# Altium schematic symbol library KN2CLib.SchLib: 64 symbols
Pins are listed as number, name and electrical type; pins without a type are passive.

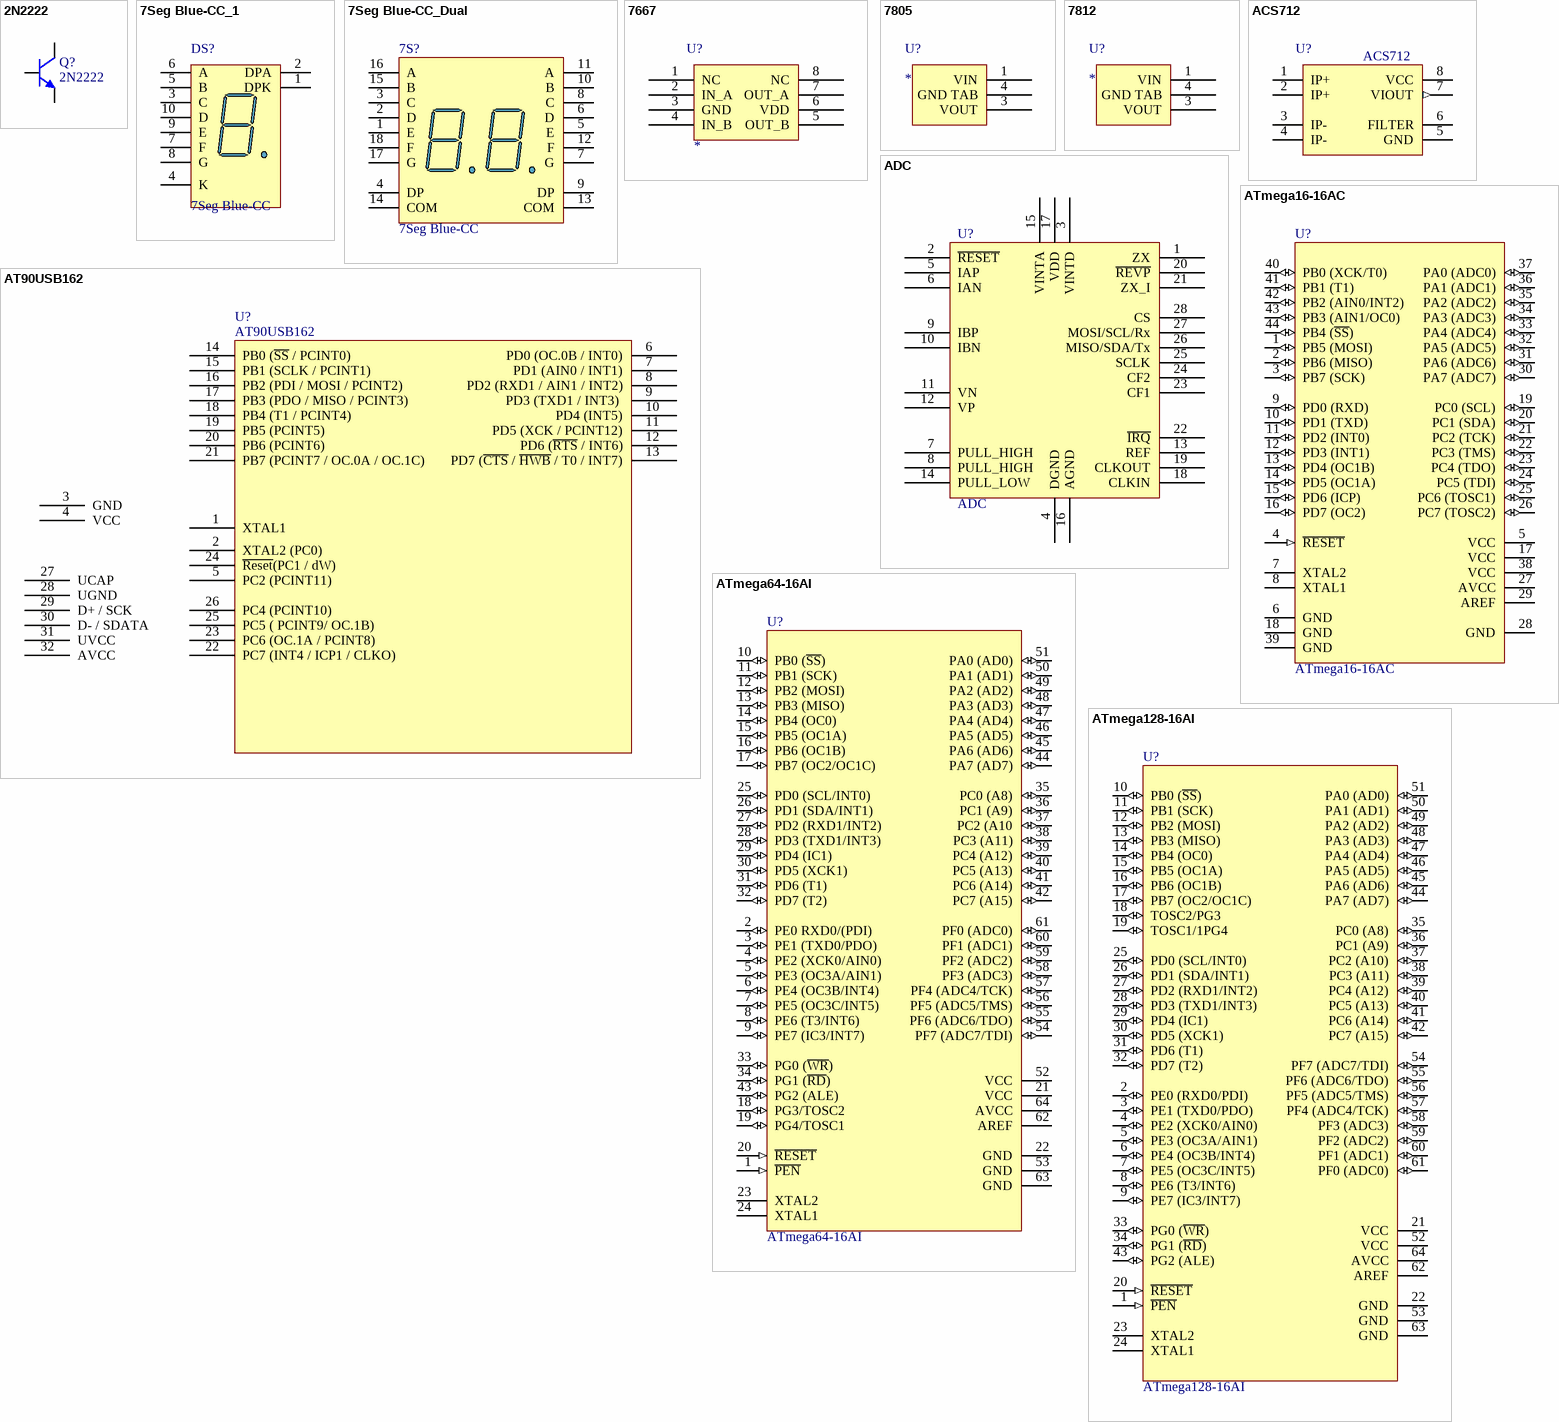
[diagram p0: symbols 2N2222 to ATmega128-16AI]

## 2N2222
designator Q?
NPN Bipolar Transistor; Published: 8-Jun-2000; LatestRevisionDate: 17-Jul-2002; LatestRevisionNote: Re-released for DXP Platform.; PackageReference: TO-226; Publisher: Altium Limited; Code_JEDEC: TO-226-AA
footprint TO-226 (TO, Flat Index; 3 In-Line, Axial Leads; Body Dia. 4.8mm; Leads 0.55 x 0.51 mm (max))
footprint SOT-23 (SOT-23; 3 Leads; Body 3.0 x 2.6 mm, inc. leads (LxW max))
pins: 1 C, 2 B, 3 E

## 7Seg Blue-CC_1
designator DS?, comment 7Seg Blue-CC
14.2 mm General Purpose Blue 7-Segment Display: CC, RH DP, Gray Surface; MinimumIntensity: 2020 ucd; Note: IF = 10 mA; Published: 8-Jun-2000; LatestRevisionDate: 17-Dec-2003; LatestRevisionNote: Schematic revised, PCB Footprint replaced.; DatasheetDocument: 24-Sep-2002; PackageDocument: 24-Sep-2002; PackageReference: H; Publisher: Altium Limited; Colour: Blue; ComponentLink1Description: Manufacturer Link; ComponentLink1URL: http://www.agilent.com/
footprint 7Segment Small
pins: 1 DPK "Anode", 2 DPA "Anode", 3 C "Common Cathode", 4 K "Anode", 5 B "Anode", 6 A "Anode", 7 F "Anode", 8 G "Common Cathode", 9 E "Anode", 10 D "Anode"

## 7Seg Blue-CC_Dual
designator 7S?, comment 7Seg Blue-CC
General Purpose Blue 7-Segment Display: CC, RH DP, Gray Surface; MinimumIntensity: 2020 ucd; Note: IF = 10 mA; Published: 8-Jun-2000; LatestRevisionDate: 17-Dec-2003; LatestRevisionNote: Schematic revised, PCB Footprint replaced.; DatasheetDocument: 24-Sep-2002; PackageDocument: 24-Sep-2002; PackageReference: H; Publisher: Altium Limited; Colour: Blue; ComponentLink1Description: Manufacturer Link; ComponentLink1URL: http://www.agilent.com/
footprint 7Segment Dual
pins: 1 E "Anode", 2 D "Anode", 3 C "Common Cathode", 4 DP "Anode", 5 E "Anode", 6 D "Anode", 7 G "Anode", 8 C "Common Cathode", 9 DP "Anode", 10 B "Anode", 11 A, 12 F, 13 COM, 14 COM, 15 B, 16 A, 17 G, 18 F

## 7667
designator U?
Dual MOSFET Driver
footprint DIP-8 (DIP; 8 Leads; Row Spacing 7.62 mm; Pitch 2.54 mm)
footprint 8 pin SOIC_N (8-Pin Small Outline Integrated Circuit 1.27 mm Pitch, IPC Medium Density)
footprint 8 pin SOIC_M (8-Pin Small Outline Integrated Circuit 1.27 mm Pitch, IPC Low Density)
footprint 8 pin SOIC_L (8-Pin Small Outline Integrated Circuit 1.27 mm Pitch, IPC High Density)
pins: 1 NC, 2 IN_A, 3 GND, 4 IN_B, 5 OUT_B, 6 VDD, 7 OUT_A, 8 NC

## 7805
designator U?
footprint D-PACK (Footprint not found)
pins: 1 VIN, 3 VOUT, 4 GND TAB

## 7812
designator U?
footprint D-PACK (Footprint not found)
pins: 1 VIN, 3 VOUT, 4 GND TAB

## ACS712
designator U?
footprint 8 pin SOIC_N (8-Pin Small Outline Integrated Circuit 1.27 mm Pitch, IPC Medium Density)
pins: 1 IP+, 2 IP+, 3 IP-, 4 IP-, 5 GND (power), 6 FILTER, 7 VIOUT (out), 8 VCC (power)

## ADC
designator U?
footprint QFN_28 (QFN, 28-Leads, Body 5.1x5.1mm (max), Pitch 0.50mm, IPC Medium Density)
pins: 1 ZX, 2 ~{RESET}, 3 VINTD, 4 DGND, 5 IAP, 6 IAN, 7 PULL_HIGH, 8 PULL_HIGH, 9 IBP, 10 IBN, 11 VN, 12 VP, 13 REF, 14 PULL_LOW, 15 VINTA, 16 AGND, 17 VDD, 18 CLKIN, 19 CLKOUT, 20 ~{REVP}, 21 ZX_I, 22 ~{IRQ}, 23 CF1, 24 CF2, 25 SCLK, 26 MISO/SDA/Tx, 27 MOSI/SCL/Rx, 28 CS

## AT90USB162
designator U?
pins: 1 XTAL1, 2 XTAL2 (PC0), 3 GND, 4 VCC, 5 PC2 (PCINT11) , 6 PD0 (OC.0B / INT0), 7 PD1 (AIN0 / INT1), 8 PD2 (RXD1 / AIN1 / INT2), 9 PD3 (TXD1 / INT3) , 10 PD4 (INT5), 11 PD5 (XCK / PCINT12), 12 PD6 (~{RTS} / INT6), 13 PD7 (~{CTS} / ~{HWB} / T0 / INT7), 14 PB0 (~{SS} / PCINT0), 15 PB1 (SCLK / PCINT1), 16 PB2 (PDI / MOSI / PCINT2), 17 PB3 (PDO / MISO / PCINT3), 18 PB4 (T1 / PCINT4), 19 PB5 (PCINT5), 20 PB6 (PCINT6), 21 PB7 (PCINT7 / OC.0A / OC.1C), 22 PC7 (INT4 / ICP1 / CLKO), 23 PC6 (OC.1A / PCINT8), 24 ~{Reset}(PC1 / dW), 25 PC5 ( PCINT9/ OC.1B), 26 PC4 (PCINT10), 27 UCAP, 28 UGND, 29 D+ / SCK, 30 D- / SDATA, 31 UVCC, 32 AVCC

## ATmega16-16AC
designator U?
8-Bit AVR Microcontroller with 16K Bytes of In-System Programmable Flash Memory; Published: 17-Sep-2003; LatestRevisionDate: 13-Apr-2006; LatestRevisionNote: IPC-7351 Footprint Added.; DatasheetVersion: 2466E-AVR-10/02; PackageVersion: rev.B, Oct-2001; PackageReference: 44A; Publisher: Altium Limited; PackageDescription: 44-Pin Thin Quad Flat Pack 0.8 mm Pitch; ComponentLink1Description: Manufacturer Link; ComponentLink1URL: http://www.atmel.com; ComponentLink2Description: Datasheet; ComponentLink2URL: http://www.atmel.com/dyn/resources/prod_documents/doc2466.pdf
footprint 44A_L (Thin QFP, 44-Leads, Body 10x10mm, Pitch 0.8mm, IPC High Density)
footprint 44A_M (Thin QFP, 44-Leads, Body 10x10mm, Pitch 0.8mm, IPC Low Density)
footprint 44A_DIP
footprint 44A_N (Thin QFP, 44-Leads, Body 10x10mm, Pitch 0.8mm, IPC Medium Density)
pins: 1 PB5 (MOSI) (io), 2 PB6 (MISO) (io), 3 PB7 (SCK) (io), 4 ~{RESET} (in), 5 VCC (power), 6 GND (power), 7 XTAL2, 8 XTAL1, 9 PD0 (RXD) (io), 10 PD1 (TXD) (io), 11 PD2 (INT0) (io), 12 PD3 (INT1) (io), 13 PD4 (OC1B) (io), 14 PD5 (OC1A) (io), 15 PD6 (ICP) (io), 16 PD7 (OC2) (io), 17 VCC (power), 18 GND (power), 19 PC0 (SCL) (io), 20 PC1 (SDA) (io), 21 PC2 (TCK) (io), 22 PC3 (TMS) (io), 23 PC4 (TDO) (io), 24 PC5 (TDI) (io), 25 PC6 (TOSC1) (io), 26 PC7 (TOSC2) (io), 27 AVCC (power), 28 GND (power), 29 AREF, 30 PA7 (ADC7) (io), 31 PA6 (ADC6) (io), 32 PA5 (ADC5) (io), 33 PA4 (ADC4) (io), 34 PA3 (ADC3) (io), 35 PA2 (ADC2) (io), 36 PA1 (ADC1) (io), 37 PA0 (ADC0) (io), 38 VCC (power), 39 GND (power), 40 PB0 (XCK/T0) (io), 41 PB1 (T1) (io), 42 PB2 (AIN0/INT2) (io), 43 PB3 (AIN1/OC0) (io), 44 PB4 (~{SS}) (io)

## ATmega64-16AI
designator U?
8-Bit AVR Microcontroller with 64K Bytes of In-System Programmable Flash Memory; Published: 17-Sep-2003; LatestRevisionDate: 13-Apr-2006; LatestRevisionNote: IPC-7351 Footprint Added.; DatasheetVersion: 2490C-AVR-009/02; PackageVersion: revB, Oct-2001; PackageReference: 64A; Publisher: Altium Limited; PackageDescription: 64-Pin Thin Quad Flat Pack 0.8 mm Pitch; Code_JEDEC: MS-026-AEB; ComponentLink1Description: Manufacturer Link; ComponentLink1URL: http://www.atmel.com; ComponentLink2Description: Datasheet; ComponentLink2URL: http://www.atmel.com/dyn/resources/prod_documents/doc2490.pdf
footprint 64A_N (Thin QFP, 64-Leads, Body 14x14mm, Pitch 0.8mm, IPC Medium Density)
footprint 64A_L (Thin QFP, 64-Leads, Body 14x14mm, Pitch 0.8mm, IPC High Density)
footprint 64A_M (Thin QFP, 64-Leads, Body 14x14mm, Pitch 0.8mm, IPC Low Density)
pins: 1 ~{PEN} (in), 2 PE0 RXD0/(PDI) (io), 3 PE1 (TXD0/PDO) (io), 4 PE2 (XCK0/AIN0) (io), 5 PE3 (OC3A/AIN1) (io), 6 PE4 (OC3B/INT4) (io), 7 PE5 (OC3C/INT5) (io), 8 PE6 (T3/INT6) (io), 9 PE7 (IC3/INT7) (io), 10 PB0 (~{SS}) (io), 11 PB1 (SCK) (io), 12 PB2 (MOSI) (io), 13 PB3 (MISO) (io), 14 PB4 (OC0) (io), 15 PB5 (OC1A) (io), 16 PB6 (OC1B) (io), 17 PB7 (OC2/OC1C) (io), 18 PG3/TOSC2 (io), 19 PG4/TOSC1 (io), 20 ~{RESET} (in), 21 VCC (power), 22 GND (power), 23 XTAL2, 24 XTAL1, 25 PD0 (SCL/INT0) (io), 26 PD1 (SDA/INT1) (io), 27 PD2 (RXD1/INT2) (io), 28 PD3 (TXD1/INT3) (io), 29 PD4 (IC1) (io), 30 PD5 (XCK1) (io), 31 PD6 (T1) (io), 32 PD7 (T2) (io), 33 PG0 (~{WR}) (io), 34 PG1 (~{RD}) (io), 35 PC0 (A8) (io), 36 PC1 (A9) (io), 37 PC2 (A10 (io), 38 PC3 (A11) (io), 39 PC4 (A12) (io), 40 PC5 (A13) (io), 41 PC6 (A14) (io), 42 PC7 (A15) (io), 43 PG2 (ALE) (io), 44 PA7 (AD7) (io), 45 PA6 (AD6) (io), 46 PA5 (AD5) (io), 47 PA4 (AD4) (io), 48 PA3 (AD3) (io), 49 PA2 (AD2) (io), 50 PA1 (AD1) (io), 51 PA0 (AD0) (io), 52 VCC (power), 53 GND (power), 54 PF7 (ADC7/TDI) (io), 55 PF6 (ADC6/TDO) (io), 56 PF5 (ADC5/TMS) (io), 57 PF4 (ADC4/TCK) (io), 58 PF3 (ADC3) (io), 59 PF2 (ADC2) (io), 60 PF1 (ADC1) (io), 61 PF0 (ADC0) (io), 62 AREF, 63 GND (power), 64 AVCC (power)

## ATmega128-16AI
designator U?
8-Bit AVR Microcontroller with 128K Bytes of In-System Programmable Flash Memory; Published: 17-Sep-2003; LatestRevisionDate: 13-Apr-2006; LatestRevisionNote: IPC-7351 Footprint Added.; DatasheetVersion: 2467G-AVR-09/02; PackageVersion: revB, Oct-2001; PackageReference: 64A; Publisher: Altium Limited; PackageDescription: 64-Pin Thin Quad Flat Pack 0.8 mm Pitch; Code_JEDEC: MS-026-AEB; ComponentLink1Description: Manufacturer Link; ComponentLink1URL: http://www.atmel.com; ComponentLink2Description: Datasheet; ComponentLink2URL: http://www.atmel.com/dyn/resources/prod_documents/doc2467.pdf
footprint 64A_N (Thin QFP, 64-Leads, Body 14x14mm, Pitch 0.8mm, IPC Medium Density)
footprint 64A_L (Thin QFP, 64-Leads, Body 14x14mm, Pitch 0.8mm, IPC High Density)
footprint 64A_M (Thin QFP, 64-Leads, Body 14x14mm, Pitch 0.8mm, IPC Low Density)
pins: 1 ~{PEN} (in), 2 PE0 (RXD0/PDI) (io), 3 PE1 (TXD0/PDO) (io), 4 PE2 (XCK0/AIN0) (io), 5 PE3 (OC3A/AIN1) (io), 6 PE4 (OC3B/INT4) (io), 7 PE5 (OC3C/INT5) (io), 8 PE6 (T3/INT6) (io), 9 PE7 (IC3/INT7) (io), 10 PB0 (~{SS}) (io), 11 PB1 (SCK) (io), 12 PB2 (MOSI) (io), 13 PB3 (MISO) (io), 14 PB4 (OC0) (io), 15 PB5 (OC1A) (io), 16 PB6 (OC1B) (io), 17 PB7 (OC2/OC1C) (io), 18 TOSC2/PG3 (io), 19 TOSC1/1PG4 (io), 20 ~{RESET} (in), 21 VCC (power), 22 GND (power), 23 XTAL2, 24 XTAL1, 25 PD0 (SCL/INT0) (io), 26 PD1 (SDA/INT1) (io), 27 PD2 (RXD1/INT2) (io), 28 PD3 (TXD1/INT3) (io), 29 PD4 (IC1) (io), 30 PD5 (XCK1) (io), 31 PD6 (T1) (io), 32 PD7 (T2) (io), 33 PG0 (~{WR}) (io), 34 PG1 (~{RD}) (io), 35 PC0 (A8) (io), 36 PC1 (A9) (io), 37 PC2 (A10) (io), 38 PC3 (A11) (io), 39 PC4 (A12) (io), 40 PC5 (A13) (io), 41 PC6 (A14) (io), 42 PC7 (A15) (io), 43 PG2 (ALE) (io), 44 PA7 (AD7) (io), 45 PA6 (AD6) (io), 46 PA5 (AD5) (io), 47 PA4 (AD4) (io), 48 PA3 (AD3) (io), 49 PA2 (AD2) (io), 50 PA1 (AD1) (io), 51 PA0 (AD0) (io), 52 VCC (power), 53 GND (power), 54 PF7 (ADC7/TDI) (io), 55 PF6 (ADC6/TDO) (io), 56 PF5 (ADC5/TMS) (io), 57 PF4 (ADC4/TCK) (io), 58 PF3 (ADC3) (io), 59 PF2 (ADC2) (io), 60 PF1 (ADC1) (io), 61 PF0 (ADC0) (io), 62 AREF, 63 GND (power), 64 AVCC (power)

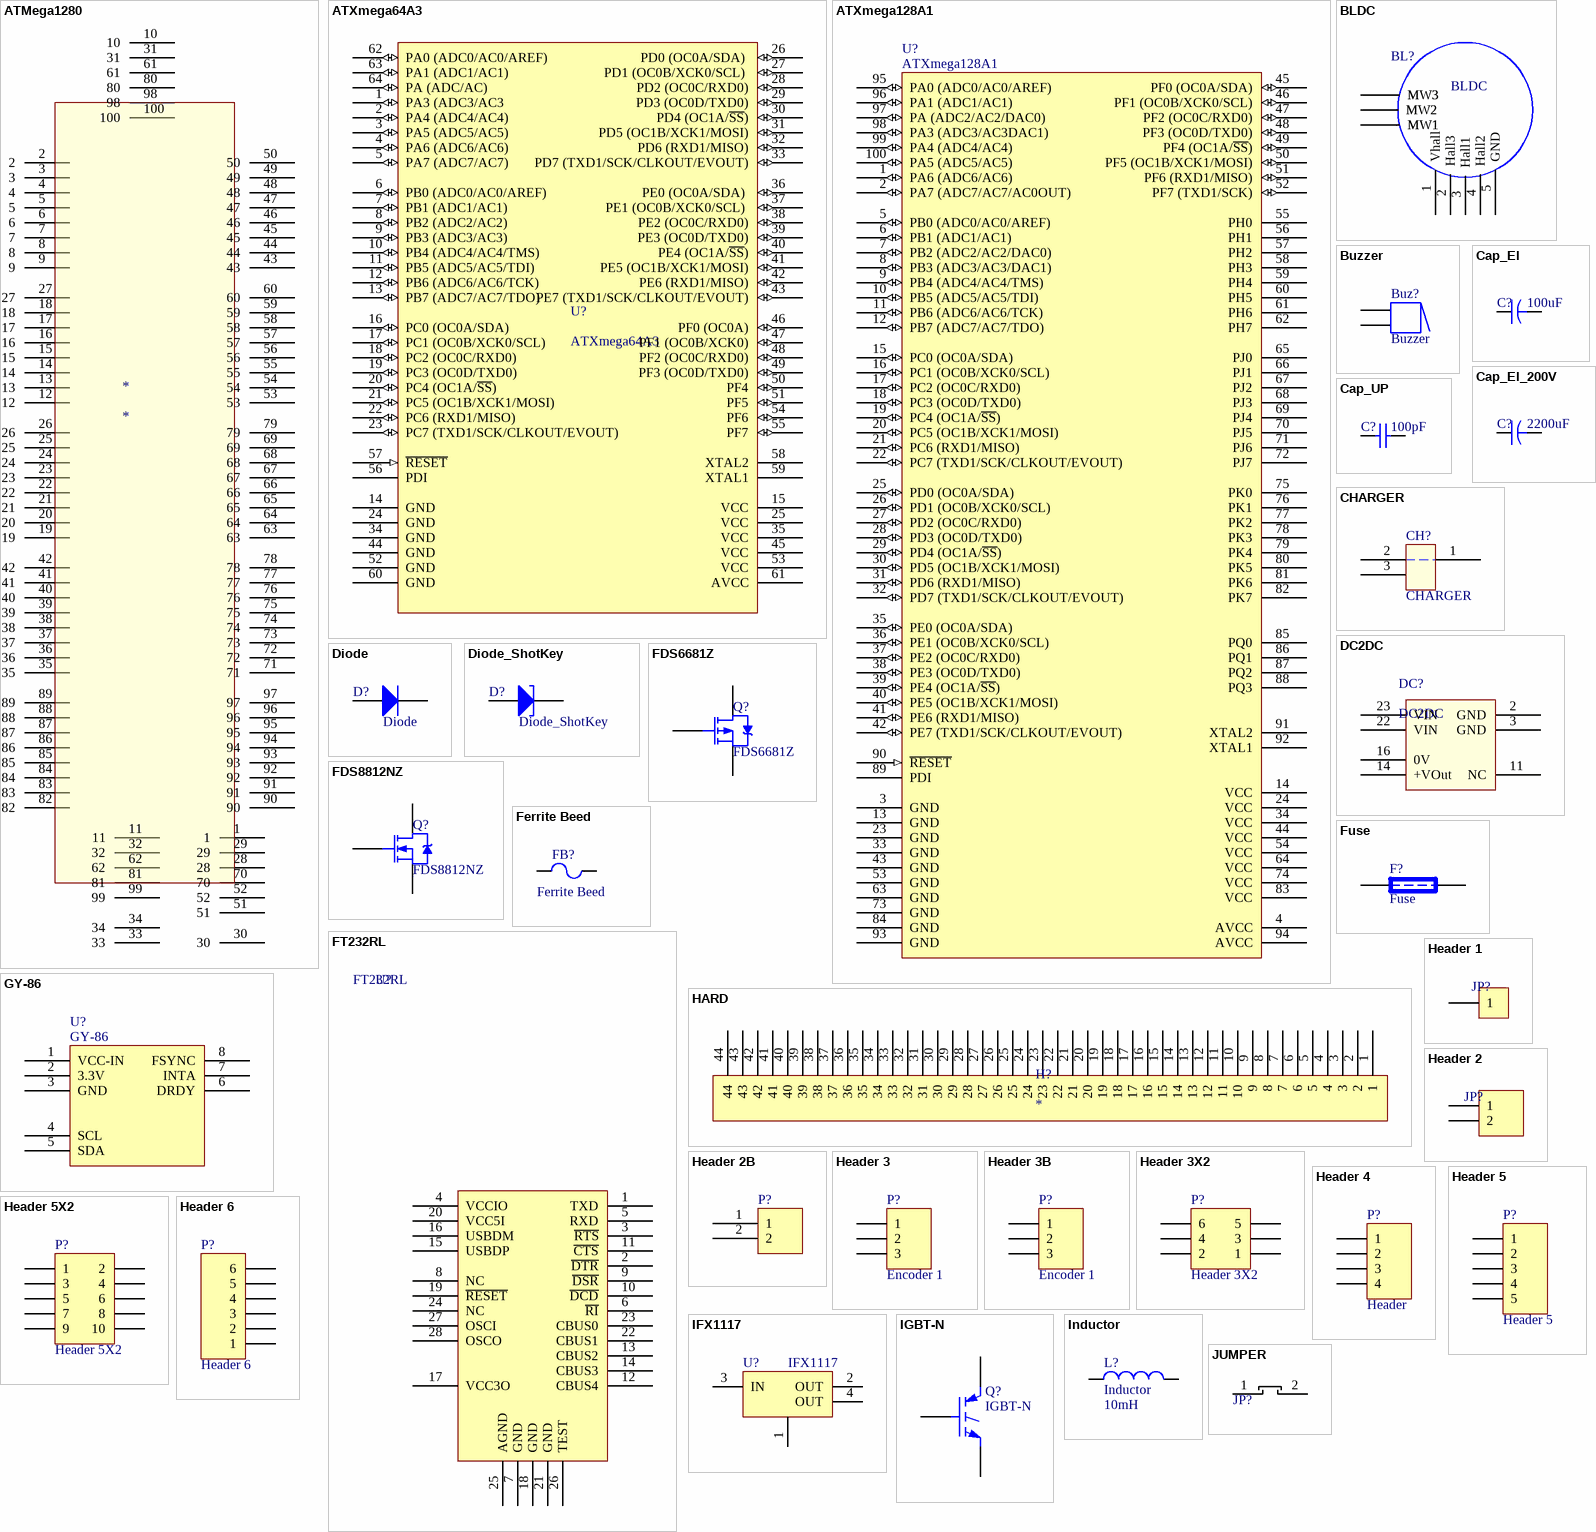
[diagram p1: symbols ATMega1280 to JUMPER]

## ATMega1280
designator *
pins: 1, 2, 3, 4, 5, 6, 7, 8, 9, 10, 11, 12, 13, 14, 15, 16, 17, 18, 19, 20, 21, 22, 23, 24, 25, 26, 27, 28, 29, 30, 31, 32, 33, 34, 35, 36, 37, 38, 39, 40, 41, 42, 43, 44, 45, 46, 47, 48, 49, 50, 51, 52, 53, 54, 55, 56, 57, 58, 59, 60, 61, 62, 63, 64, 65, 66, 67, 68, 69, 70, 71, 72, 73, 74, 75, 76, 77, 78, 79, 80, 81, 82, 83, 84, 85, 86, 87, 88, 89, 90, 91, 92, 93, 94, 95, 96, 97, 98, 99, 100

## ATXmega64A3
designator U?
footprint 64A_M (Thin QFP, 64-Leads, Body 14x14mm, Pitch 0.8mm, IPC Low Density)
footprint 64A_L (Thin QFP, 64-Leads, Body 14x14mm, Pitch 0.8mm, IPC High Density)
footprint 64A_DIP (DIP, 64-Leads, Body 14x14mm,)
footprint 64A_N (Thin QFP, 64-Leads, Body 14x14mm, Pitch 0.8mm, IPC Medium Density)
footprint 64A_COMPONENT
footprint 64A_MDIP
pins: 1 PA3 (ADC3/AC3 (io), 2 PA4 (ADC4/AC4) (io), 3 PA5 (ADC5/AC5) (io), 4 PA6 (ADC6/AC6) (io), 5 PA7 (ADC7/AC7) (io), 6 PB0 (ADC0/AC0/AREF) (io), 7 PB1 (ADC1/AC1) (io), 8 PB2 (ADC2/AC2) (io), 9 PB3 (ADC3/AC3) (io), 10 PB4 (ADC4/AC4/TMS) (io), 11 PB5 (ADC5/AC5/TDI) (io), 12 PB6 (ADC6/AC6/TCK) (io), 13 PB7 (ADC7/AC7/TDO) (io), 14 GND (power), 15 VCC (power), 16 PC0 (OC0A/SDA)  (io), 17 PC1 (OC0B/XCK0/SCL)  (io), 18 PC2 (OC0C/RXD0) (io), 19 PC3 (OC0D/TXD0) (io), 20 PC4 (OC1A/~{SS}) (io), 21 PC5 (OC1B/XCK1/MOSI) (io), 22 PC6 (RXD1/MISO) (io), 23 PC7 (TXD1/SCK/CLKOUT/EVOUT) (io), 24 GND (power), 25 VCC (power), 26 PD0 (OC0A/SDA)  (io), 27 PD1 (OC0B/XCK0/SCL)  (io), 28 PD2 (OC0C/RXD0) (io), 29 PD3 (OC0D/TXD0) (io), 30 PD4 (OC1A/~{SS}) (io), 31 PD5 (OC1B/XCK1/MOSI) (io), 32 PD6 (RXD1/MISO) (io), 33 PD7 (TXD1/SCK/CLKOUT/EVOUT) (io), 34 GND (power), 35 VCC (power), 36 PE0 (OC0A/SDA)  (io), 37 PE1 (OC0B/XCK0/SCL)  (io), 38 PE2 (OC0C/RXD0) (io), 39 PE3 (OC0D/TXD0) (io), 40 PE4 (OC1A/~{SS}) (io), 41 PE5 (OC1B/XCK1/MOSI) (io), 42 PE6 (RXD1/MISO) (io), 43 PE7 (TXD1/SCK/CLKOUT/EVOUT) (io), 44 GND (power), 45 VCC (power), 46 PF0 (OC0A) (io), 47 PF1 (OC0B/XCK0) (io), 48 PF2 (OC0C/RXD0) (io), 49 PF3 (OC0D/TXD0) (io), 50 PF4 (io), 51 PF5 (io), 52 GND (power), 53 VCC (power), 54 PF6 (io), 55 PF7 (io), 56 PDI, 57 ~{RESET} (in), 58 XTAL2, 59 XTAL1, 60 GND (power), 61 AVCC (power), 62 PA0 (ADC0/AC0/AREF) (io), 63 PA1 (ADC1/AC1) (io), 64 PA (ADC/AC) (io)

## ATXmega128A1
designator U?
footprint 100A_N (Thin QFP, 100-Leads, Body 14x14mm, Pitch 0.5mm, IPC Medium Density)
footprint 100A_M (Thin QFP, 100-Leads, Body 14x14mm, Pitch 0.5mm, IPC Low Density)
footprint 100A_L (Thin QFP, 100-Leads, Body 14x14mm, Pitch 0.5mm, IPC High Density)
pins: 1 PA6 (ADC6/AC6) (io), 2 PA7 (ADC7/AC7/AC0OUT) (io), 3 GND (power), 4 AVCC (power), 5 PB0 (ADC0/AC0/AREF) (io), 6 PB1 (ADC1/AC1) (io), 7 PB2 (ADC2/AC2/DAC0) (io), 8 PB3 (ADC3/AC3/DAC1) (io), 9 PB4 (ADC4/AC4/TMS) (io), 10 PB5 (ADC5/AC5/TDI) (io), 11 PB6 (ADC6/AC6/TCK) (io), 12 PB7 (ADC7/AC7/TDO) (io), 13 GND (power), 14 VCC (power), 15 PC0 (OC0A/SDA)  (io), 16 PC1 (OC0B/XCK0/SCL)  (io), 17 PC2 (OC0C/RXD0) (io), 18 PC3 (OC0D/TXD0) (io), 19 PC4 (OC1A/~{SS}) (io), 20 PC5 (OC1B/XCK1/MOSI) (io), 21 PC6 (RXD1/MISO) (io), 22 PC7 (TXD1/SCK/CLKOUT/EVOUT) (io), 23 GND (power), 24 VCC (power), 25 PD0 (OC0A/SDA)  (io), 26 PD1 (OC0B/XCK0/SCL)  (io), 27 PD2 (OC0C/RXD0) (io), 28 PD3 (OC0D/TXD0) (io), 29 PD4 (OC1A/~{SS}) (io), 30 PD5 (OC1B/XCK1/MOSI) (io), 31 PD6 (RXD1/MISO) (io), 32 PD7 (TXD1/SCK/CLKOUT/EVOUT) (io), 33 GND (power), 34 VCC (power), 35 PE0 (OC0A/SDA)  (io), 36 PE1 (OC0B/XCK0/SCL)  (io), 37 PE2 (OC0C/RXD0) (io), 38 PE3 (OC0D/TXD0) (io), 39 PE4 (OC1A/~{SS}) (io), 40 PE5 (OC1B/XCK1/MOSI) (io), 41 PE6 (RXD1/MISO) (io), 42 PE7 (TXD1/SCK/CLKOUT/EVOUT) (io), 43 GND (power), 44 VCC (power), 45 PF0 (OC0A/SDA) (io), 46 PF1 (OC0B/XCK0/SCL) (io), 47 PF2 (OC0C/RXD0) (io), 48 PF3 (OC0D/TXD0) (io), 49 PF4 (OC1A/~{SS}) (io), 50 PF5 (OC1B/XCK1/MOSI) (io), 51 PF6 (RXD1/MISO) (io), 52 PF7 (TXD1/SCK) (io), 53 GND (power), 54 VCC, 55 PH0, 56 PH1, 57 PH2, 58 PH3, 59 PH4, 60 PH5, 61 PH6, 62 PH7, 63 GND, 64 VCC, 65 PJ0, 66 PJ1, 67 PJ2, 68 PJ3, 69 PJ4, 70 PJ5, 71 PJ6, 72 PJ7, 73 GND, 74 VCC, 75 PK0, 76 PK1, 77 PK2, 78 PK3, 79 PK4, 80 PK5, 81 PK6, 82 PK7, 83 VCC, 84 GND, 85 PQ0, 86 PQ1, 87 PQ2, 88 PQ3, 89 PDI, 90 ~{RESET} (in), 91 XTAL2, 92 XTAL1, 93 GND, 94 AVCC (power), 95 PA0 (ADC0/AC0/AREF) (io), 96 PA1 (ADC1/AC1) (io), 97 PA (ADC2/AC2/DAC0) (io), 98 PA3 (ADC3/AC3DAC1) (io), 99 PA4 (ADC4/AC4) (io), 100 PA5 (ADC5/AC5) (io)

## BLDC
designator BL?
footprint FLT11
pins: 1 Vhall, 2 Hall3, 3 Hall1, 4 Hall2, 5 GND, 6 MW3, 7 MW3, 8 MW2, 9 MW2, 10 MW1, 11 MW1

## Buzzer
designator Buz?
footprint Buzzer
pins: 1, 2

## Cap_El
designator C?  value 100uF  (hidden comment: Cap_El)
Capacitor; Published: 23-Sep-2002; PackageReference: CAPR5-4X5; Publisher: Altium Limited
footprint EL_M
footprint EL_L (Footprint not found)
footprint EL_B
footprint 7343 (Capacitor, SM Tantalum; Body 7.3 x 4.3 mm (LxW typ))
footprint EL_M
footprint SIZE_A (Molded Capacitor, 2-Leads, Body 3.4x1.9mm, IPC Medium Density)
footprint SIZE_B (Molded Capacitor, 2-Leads, Body 3.9x3.0mm, IPC Medium Density)
pins: 1, 2

## Cap_El_200V
designator C?  value 2200uF  (hidden comment: Cap_El_200V)
Capacitor; Published: 23-Sep-2002; PackageReference: CAPR5-4X5; Publisher: Altium Limited
footprint CAP (Footprint not found)
pins: 1, 2

## Cap_UP
designator C?  value 100pF  (hidden comment: Cap_UP)
Capacitor; Published: 8-Jun-2000; LatestRevisionDate: 17-Jul-2002; LatestRevisionNote: Re-released for DXP Platform.; PackageReference: RAD-0.3; Publisher: Altium Limited
footprint UP (Footprint not found)
footprint UP_ML (Capacitor, Ceramic, Thru-Hole, Dipped Radial; Body 7.8 x 3.2 mm (WxT) Pin Spacing 5.08 mm (typ))
footprint 2012[0805] (Chip Resistor; Body 2.0 x 1.3 mm (LxW typ))
footprint 1608[0603] (Chip Capacitor; Body 1.6 x 0.8 mm (LxW typ))
pins: 1, 2

## CHARGER
designator CH?
footprint CHARGER
pins: 1, 2, 3

## DC2DC
designator DC?
footprint PWB2403MD-6W
pins: 2 GND, 3 GND, 11 NC, 14 +VOut, 16 0V, 22 VIN, 23 VIN

## Diode
designator D?
1 Amp General Purpose Rectifier; Revision 1: 11-Jul-2000: SIM Model Added.; Revision 2: 17-Jul-2002: Re-released for DXP Platform.; Package Information: Latest Revision: Aug-1999; Code - JEDEC: DO-204-AL; Published: 8-Jun-2000; Datasheet: Latest Revision: 1998; Package Reference: DO-41; Publisher: Altium Limited
footprint US1M (Molded Diode, 2-Leads, Body 4.3x2.6mm, IPC Medium Density)
footprint 2012[0805] (Chip Resistor; Body 2.0 x 1.3 mm (LxW typ))
footprint DIO10.46-5.3X2.8
footprint LED_3MM
footprint SS3M
pins: 1 A, 2 K

## Diode_ShotKey
designator D?
1 Amp General Purpose Rectifier; Revision 1: 11-Jul-2000: SIM Model Added.; Revision 2: 17-Jul-2002: Re-released for DXP Platform.; Package Information: Latest Revision: Aug-1999; Code - JEDEC: DO-204-AL; Published: 8-Jun-2000; Datasheet: Latest Revision: 1998; Package Reference: DO-41; Publisher: Altium Limited
footprint TO-220A
pins: 1 K, 2 A

## FDS6681Z
designator Q?
P-Channel MOSFET
footprint SO-8_L (8-Pin Small Outline Integrated Circuit 1.27 mm Pitch, IPC High Density)
footprint SO-8_M (8-Pin Small Outline Integrated Circuit 1.27 mm Pitch, IPC Low Density)
footprint SO-8_N (8-Pin Small Outline Integrated Circuit 1.27 mm Pitch, IPC Medium Density)
pins: 1 D, 2 G, 3 S, 4, 5, 6, 7, 8

## FDS8812NZ
designator Q?
N-Channel MOSFET
footprint SO-8_L (8-Pin Small Outline Integrated Circuit 1.27 mm Pitch, IPC High Density)
footprint SO-8_M (8-Pin Small Outline Integrated Circuit 1.27 mm Pitch, IPC Low Density)
footprint SO-8_N (8-Pin Small Outline Integrated Circuit 1.27 mm Pitch, IPC Medium Density)
pins: 1 D, 2 G, 3 S, 4, 5, 6, 7, 8

## Ferrite Beed
designator FB?
Code_IEC: 1005; Published: 8-Jun-2000; LatestRevisionDate: 17-Jul-2002; LatestRevisionNote: Re-released for DXP Platform.; PackageReference: 0402-A; Publisher: Altium Limited; Code_JEITA: 0402
footprint 2012[0805] (Chip Resistor; Body 2.0 x 1.3 mm (LxW typ))
pins: 1, 2

## FT232RL
designator U?
footprint SSOP28 (SSOP; 28 Leads; Body Width 5.3 mm; Pitch 0.65 mm)
pins: 1 TXD, 2 ~{DTR}, 3 ~{RTS}, 4 VCCIO, 5 RXD, 6 ~{RI}, 7 GND, 8 NC, 9 ~{DSR}, 10 ~{DCD}, 11 ~{CTS}, 12 CBUS4, 13 CBUS2, 14 CBUS3, 15 USBDP, 16 USBDM, 17 VCC3O, 18 GND, 19 ~{RESET}, 20 VCC5I, 21 GND, 22 CBUS1, 23 CBUS0, 24 NC, 25 AGND, 26 TEST, 27 OSCI, 28 OSCO

## Fuse
designator F?
Published: 8-Jun-2000; LatestRevisionDate: 17-Jul-2002; LatestRevisionNote: Re-released for DXP Platform.; PackageReference: PIN-W2/E2.8; Publisher: Altium Limited
footprint FUSE
pins: 1, 2

## GY-86
designator U?
footprint GY-86
pins: 1 VCC-IN, 2 3.3V, 3 GND, 4 SCL, 5 SDA, 6 DRDY, 7 INTA, 8 FSYNC

## HARD
designator H?
pins: 1, 2, 3, 4, 5, 6, 7, 8, 9, 10, 11, 12, 13, 14, 15, 16, 17, 18, 19, 20, 21, 22, 23, 24, 25, 26, 27, 28, 29, 30, 31, 32, 33, 34, 35, 36, 37, 38, 39, 40, 41, 42, 43, 44

## Header 1
designator JP?  (value not drawn)
A Single Pin
footprint Single Pin (A Single Pin)
pins: 1

## Header 2
designator JP?  (value not drawn)
Header, 2-Pin; Revision: 17-Jul-2002: Re-released for DXP Platform.; Publisher: Altium Limited
footprint HDR1X2A (Footprint not found)
signal-integrity model Connector
footprint HDR1X2 (Connector; Header; 2 Position)
footprint Batt-Clock (Clock-Battery-3V-CR2032)
footprint Batt-ONBOARD
footprint HDR1X2-R-SMD
pins: 1, 2

## Header 2B
designator P?
footprint BHDR1X2
footprint BRHDR1X2
footprint PHOENIX2
footprint PHOENIX2-RA
pins: 1, 2

## Header 3
designator P?, comment Encoder 1
Header, 3-Pin; LatestRevisionDate: 17-Jul-2002; LatestRevisionNote: Re-released for DXP Platform.; Publisher: Altium Limited
signal-integrity model Connector
footprint HDR1X3A
footprint HDR1X3 (Footprint not found)
pins: 1, 2, 3

## Header 3B
designator P?, comment Encoder 1
Header, 3-Pin; LatestRevisionDate: 17-Jul-2002; LatestRevisionNote: Re-released for DXP Platform.; Publisher: Altium Limited
footprint PHOENIX3
pins: 1, 2, 3

## Header 3X2
designator P?
Header, 3-Pin, Dual row; LatestRevisionDate: 17-Jul-2002; LatestRevisionNote: Re-released for DXP Platform.; Publisher: Altium Limited
footprint HDRBOX2X3 (Footprint not found)
signal-integrity model Connector
footprint HDR2X3-SMD
footprint HDR3X2-R-SMD (HDR-Right-outside board)
pins: 1, 2, 3, 4, 5, 6

## Header 4
designator P?, comment Header
Header, 4-Pin; LatestRevisionDate: 17-Jul-2002; LatestRevisionNote: Re-released for DXP Platform.; Publisher: Altium Limited
footprint HDR1X4A (Footprint not found)
signal-integrity model Connector
pins: 1, 2, 3, 4

## Header 5
designator P?
Header, 5-Pin; LatestRevisionDate: 17-Jul-2002; LatestRevisionNote: Re-released for DXP Platform.; Publisher: Altium Limited
footprint HDR1X5A
signal-integrity model Connector
pins: 1, 2, 3, 4, 5

## Header 5X2
designator P?
Header, 5-Pin, Dual row; LatestRevisionDate: 17-Jul-2002; LatestRevisionNote: Re-released for DXP Platform.; Publisher: Altium Limited
footprint HDRBOX2X5
footprint HDR2X5 (Connector; Header; 5x2 Position)
pins: 1, 2, 3, 4, 5, 6, 7, 8, 9, 10

## Header 6
designator P?
Header, 6-Pin; LatestRevisionDate: 17-Jul-2002; LatestRevisionNote: Re-released for DXP Platform.; Publisher: Altium Limited
footprint HDR1X6 (Connector; Header; 6 Position)
pins: 1, 2, 3, 4, 5, 6

## IFX1117
designator U?
footprint SOT223 (SOT223, 4-Leads, Body 6.7x7.3mm (max), Pitch 2.30mm, IPC Medium Density)
pins: 1 GND (power), 2 OUT (power), 3 IN (power), 4 OUT

## IGBT-N
designator Q?
Insulated Gate Bipolar Transistor (N-Channel); Published: 8-Jun-2000; LatestRevisionDate: 17-Jul-2002; LatestRevisionNote: Re-released for DXP Platform.; DatasheetDocument: PD-9.684A; PackageReference: TO-247; Publisher: Altium Limited; Code_JEDEC: TO-247-AC; ComponentLink1Description: Manufacturer Link; ComponentLink1URL: http://www.irf.com/
footprint LF33
footprint MOSFET-NCH
footprint TO268 (D3-PAK, 3-Pads, Body 14.0x16.0mm (max), IPC Medium Density)
footprint D2-PACK (D-PAK, 3-Pads, Body 6.2x6.7mm (max), IPC Medium Density)
pins: 1 G, 2 C, 3 E

## Inductor
designator L?  value 10mH
Code_IEC: 1005; Published: 8-Jun-2000; LatestRevisionDate: 17-Jul-2002; LatestRevisionNote: Re-released for DXP Platform.; PackageReference: 0402-A; Publisher: Altium Limited; Code_JEITA: 0402
footprint Mh
footprint mh2
footprint Inductor-SMD (100uH)
pins: 1, 2

## JUMPER
designator JP?  (value not drawn)
footprint JPR (Jumper)
footprint HDR1X2 (Connector; Header; 2 Position)
pins: 1, 2

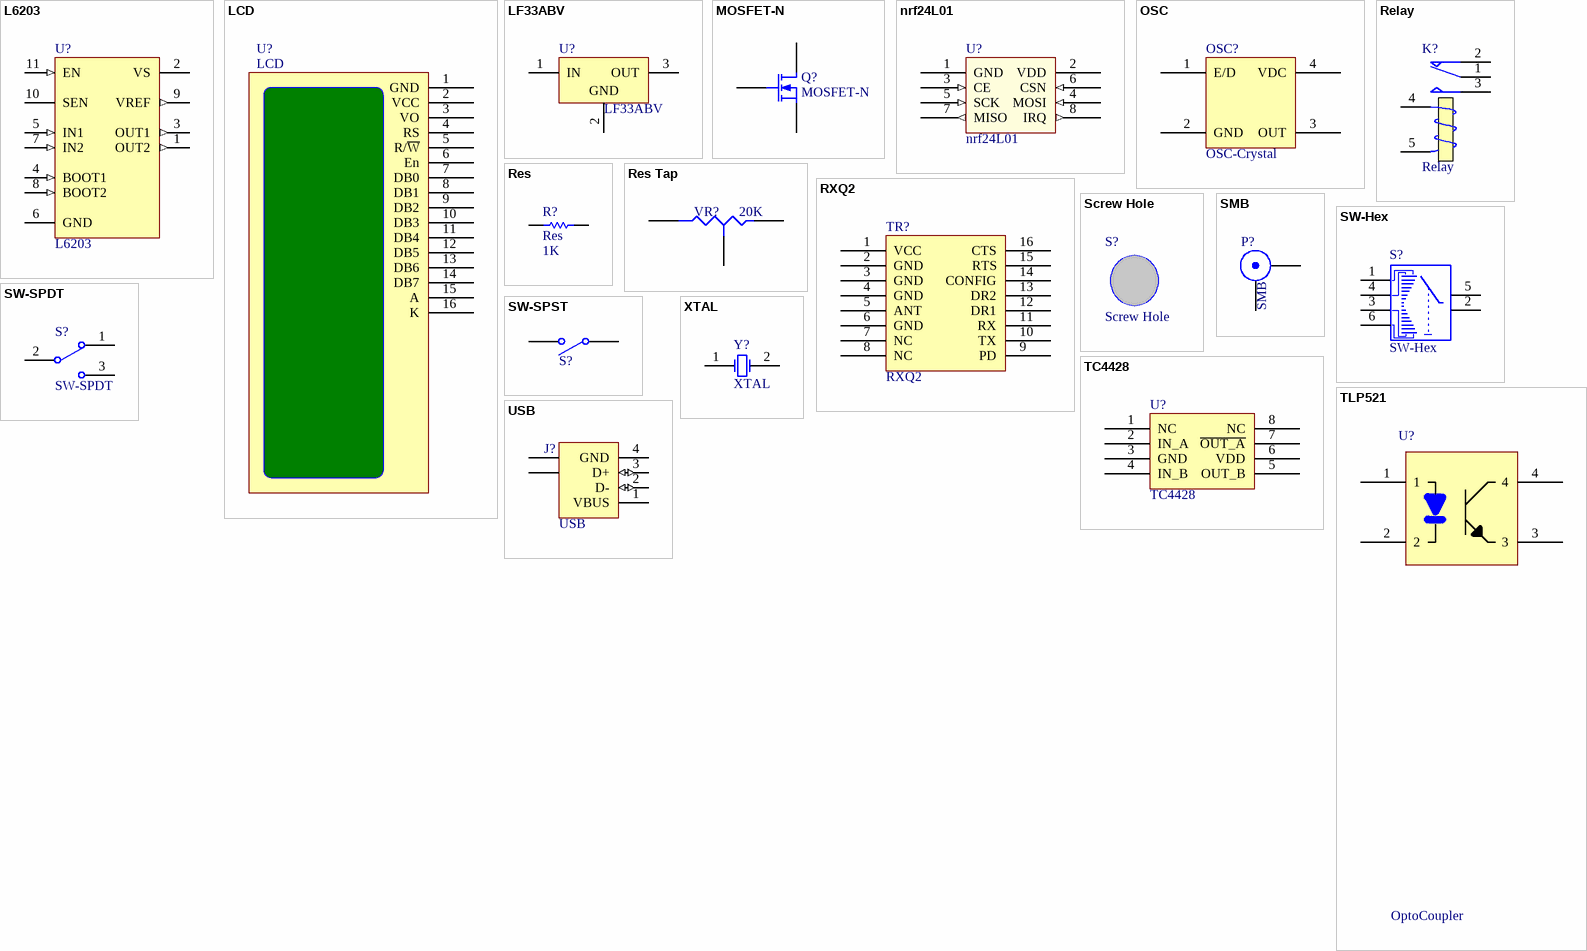
[diagram p2: symbols L6203 to XTAL]

## L6203
designator U?
DMOS Full Bridge Driver; Note: TAB connected to pin 6; Published: 8-Jun-2000; LatestRevisionDate: 17-Jul-2002; LatestRevisionNote: Re-released for DXP Platform.; DatasheetVersion: Jul-1997; PackageReference: Multiwatt11; Publisher: Altium Limited; PackageDescription: TO, Thru-Hole, Vertical, Heatsink Mounted; 11 Bent Staggered Leads; Pitch 1.7 mm; ComponentLink1Description: Manufacturer Link; ComponentLink1URL: http://www.st.com/; ComponentLink2Description: Datasheet; ComponentLink2URL: http://www.st.com/stonline/products/literature/ds/1373/l6201.pdf
footprint Multiwatt11 (TO, Thru-Hole, Vertical, Heatsink Mounted; 11 Bent Staggered Leads; Pitch 1.7 mm)
pins: 1 OUT2 (out), 2 VS (power), 3 OUT1 (out), 4 BOOT1 (in), 5 IN1 (in), 6 GND (power), 7 IN2 (in), 8 BOOT2 (in), 9 VREF (out), 10 SEN, 11 EN (in)

## LCD
designator U?
LCD 2X16
footprint LCD
footprint LCD-DIP
footprint LCD_IDC (Footprint not found)
pins: 1 GND, 2 VCC, 3 VO, 4 RS, 5 R/~{W}, 6 En, 7 DB0, 8 DB1, 9 DB2, 10 DB3, 11 DB4, 12 DB5, 13 DB6, 14 DB7, 15 A, 16 K

## LF33ABV
designator U?
500mA, Very Low Drop (0.45V) Voltage Regulator; Published: 24-Aug-2001; LatestRevisionDate: 06-Jun-2005; LatestRevisionNote: PCB Pin sequence re-ordered.; DatasheetVersion: Feb-2004; PackageVersion: Jul-2004; PackageReference: TO-220A; Publisher: Altium Limited; PackageDescription: TO, Thru-Hole, Vertical, Heatsink Mounted; 3 In-Line Leads; Pitch 2.54 mm; ComponentLink1Description: Manufacturer Link; ComponentLink1URL: http://www.st.com/; ComponentLink2Description: Datasheet; ComponentLink2URL: http://www.st.com/stonline/books/pdf/docs/2574.pdf
footprint LF33 (Footprint not found)
footprint lf33_hit
footprint 1-03 (Oval Flange Mount with (2) Offset Leads; Pin Spacing 10.92 mm; Lead Dia. 1.09 mm (max))
pins: 1 IN (power), 2 GND (power), 3 OUT (power)

## MOSFET-N
designator Q?
N-Channel MOSFET; PackageDocument: 1995/1996; Published: 8-Jun-2000; LatestRevisionDate: 17-Jul-2002; LatestRevisionNote: Re-released for DXP Platform.; PackageReference: E3; Publisher: Altium Limited
footprint MOSFET-NCH
footprint TO247 (SIP with Mounting Hole; 3 Leads; Body 20 x 15.6 x 5 mm (typ); Pitch 5.45 mm)
footprint TO247_HEATSINK (SIP with Mounting Hole; 3 Leads; Body 20 x 15.6 x 5 mm (typ); Pitch 5.45 mm)
pins: 1 G, 2 D, 3 S

## nrf24L01
designator U?
footprint NRF24L01
footprint NRF24L01+PA+LNA
footprint NRF24L01+PA+LNA-V4
pins: 1 GND (power), 2 VDD (power), 3 CE (in), 4 MOSI (in), 5 SCK (in), 6 CSN (in), 7 MISO (out), 8 IRQ (out)

## OSC
designator OSC?, comment OSC-Crystal
footprint OSC-SMD
pins: 1 E/D, 2 GND, 3 OUT, 4 VDC

## Relay
designator K?
SPDT Relay; Published: 8-Jun-2000; LatestRevisionDate: 17-Jul-2002; LatestRevisionNote: Re-released for DXP Platform.; PackageReference: MODULE5B; Publisher: Altium Limited
footprint RELAY (Footprint not found)
pins: 1 COM, 2 NC, 3 NO, 4 T1, 5 T2

## Res
designator R?  value 1K
Semiconductor Resistor; Published: 8-Jun-2000; LatestRevisionDate: 17-Jul-2002; LatestRevisionNote: Re-released for DXP Platform.; PackageReference: AXIAL-0.5; Publisher: Altium Limited
footprint 2012[0805] (Chip Resistor; Body 2.0 x 1.3 mm (LxW typ))
footprint 3216[1206] (Chip Resistor; Body 3.2 x 1.6 mm (LxW typ))
footprint AXIAL-0.3
footprint RESW
footprint 6332[2512] (Chip Resistor; Body 6.3 x 3.2 mm (LxW typ))
footprint 1608[0603] (Chip Capacitor; Body 1.6 x 0.8 mm (LxW typ))
pins: 1, 2

## Res Tap
designator VR?  value 20K  (hidden comment: Res Tap)
Tapped Resistor; Sim Note: Enter the Resistance value and the set point into parameter fields.; Set Position: 0.5; Published: 24-Mar-1999; LatestRevisionDate: 17-Jul-2002; LatestRevisionNote: Re-released for DXP Platform.; PackageReference: VR3; Publisher: Altium Limited
footprint MULTITURN
footprint POT
pins: 1 A, 2 B, 3 TAP

## RXQ2
designator TR?
footprint RXQ2
pins: 1 VCC, 2 GND, 3 GND, 4 GND, 5 ANT, 6 GND, 7 NC, 8 NC, 9 PD, 10 TX, 11 RX, 12 DR1, 13 DR2, 14 CONFIG, 15 RTS, 16 CTS

## Screw Hole
designator S?
footprint Screw Holw 3-6 mm

## SMB
designator P?
SMB Straight Connector; Revision: 17-Jul-2002: Re-released for DXP Platform.; Publisher: Altium Limited
footprint ANTENNA_433
footprint ANTENNA_868
pins: 1 X, 2 Y

## SW-Hex
designator S?
Published: 24-Mar-1999; LatestRevisionDate: 17-Jul-2002; LatestRevisionNote: Re-released for DXP Platform.; PackageReference: DIP-8; Publisher: Altium Limited
footprint SW-HEX
pins: 1, 2, 3, 4, 5, 6

## SW-SPDT
designator S?
SPDT Subminiature Toggle Switch, Right Angle Mounting, Vertical Actuation; Published: 24-Mar-1999; LatestRevisionDate: 17-Dec-2003; LatestRevisionNote: Schematic revised, PCB Footprint replaced.; DatasheetDocument: 05-Dec-2000; PackageReference: TL36WW15050; Publisher: Altium Limited; ComponentLink1Description: Manufacturer Link; ComponentLink1URL: http://www.apem.com
footprint KEYKH
footprint KEYKHRA (Footprint not found)
footprint KEYKHRAB
footprint SW-SPDT
pins: 1 3, 2, 3 1

## SW-SPST
designator S?  (value not drawn)
Single-Pole, Single-Throw Switch; Published: 24-Mar-1999; Revision: July-2002: Re-released for DXP Platform.; Publisher: Altium Limited
footprint KEY
footprint DIP-1 (DIP; 8 Leads; Row Spacing 7.62 mm; Pitch 2.54 mm)
footprint PUSH-BUT
footprint PUSH-BUT-SMD
footprint SW-PB-4P
pins: 1 COMMON, 2 NO

## TC4428
designator U?
Dual MOSFET Driver
footprint DIP-8 (DIP; 8 Leads; Row Spacing 7.62 mm; Pitch 2.54 mm)
footprint 8 pin SOIC_N (8-Pin Small Outline Integrated Circuit 1.27 mm Pitch, IPC Medium Density)
footprint 8 pin SOIC_M (8-Pin Small Outline Integrated Circuit 1.27 mm Pitch, IPC Low Density)
footprint 8 pin SOIC_L (8-Pin Small Outline Integrated Circuit 1.27 mm Pitch, IPC High Density)
pins: 1 NC, 2 IN_A, 3 GND, 4 IN_B, 5 OUT_B, 6 VDD, 7 ~{OUT_A}, 8 NC

## TLP521
designator U?, comment OptoCoupler
footprint DIP-4 (DIP; 4 Leads; Row Spacing 7.62 mm; Pitch 2.54 mm)
footprint SMD-4 (DIP; 4 Leads; Row Spacing 7.62 mm; Pitch 2.54 mm)
pins: 1, 2, 3, 4

## USB
designator J?
USB 1.1, Right Angle, Thru-Hole, A Type, Receptacle, 4 Position, Black; ContactMaterial: Copper Alloy; ContactPlating: Gold (30) over Palladium Nickel; TerminationLength: 2.84mm [0.112in.]; PCB_Layout: Complies with manufacturer's recommendation.; DrillSize: Corresponds to nominal value.; PanelGround: Without; Published: 15-Jul-2004; DatasheetDocument: 11-Jan-2004; PackageDocument: 11-Jan-2004; PackageReference: 1364372; Publisher: Altium Limited; HousingMaterial: Thermoplastic; ComponentLink1Description: Manufacturer Link; ComponentLink1URL: http://www.tycoelectronics.com/; ComponentLink2Description: Packaging Specification; ComponentLink2URL: http://ecommas.tycoelectronics.com/commerce/DocumentDelivery/DDEController?Action=showdoc&DocId=Customer+Drawing%7F1364372%7FD%7Ftif%7FEnglish%7FENG_CD_1364372_D.tif
footprint USBA (Connector; USB1.1, Type A, Thru-Hole; 4 Position; Right Angle)
footprint USBB
footprint USB_MINI (Footprint not found)
footprint Micro-USB
pins: 1 VBUS (power) "Power", 2 D- (io) "-DATA", 3 D+ (io) "+DATA", 4 GND (power) "Ground", 5 SHLD "Shield", 6 SHLD "Shield"

## XTAL
designator Y?
Crystal Oscillator; Published: 8-Jun-2000; LatestRevisionDate: 17-Jul-2002; LatestRevisionNote: Re-released for DXP Platform.; PackageReference: R38; Publisher: Altium Limited
footprint XTALL
footprint Xtal-smd
footprint XTAL-mini (Xtal mini for clock)
pins: 1 OSC1, 2 OSC2